# Altium integrated library 0402ZD105KAT2A.IntLib: 1 symbol
Pins are listed as number, name and electrical type; pins without a type are passive.

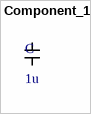
[diagram p0: symbol Component_1]

## Component_1
designator C, comment 1u
Buying URL: https://uk.farnell.com/avx/0402zd105kat2a/cap-1-f-10v-10-x5r-0402/dp/1740588?st=1u%20capsitor
pins: 1, 2